# Altium footprint library 2Д212.PcbLib: 1 footprints
Each footprint in its own frame and in the unit in brackets; x right, y up, seen from the top. Pads: shape width x height; smd on the part's side, far side on the other; paste and mask are expansions set on the pad; w line width, h text height; cw(c..) or ccw(c..) is an arc to the next point about the centre after c.
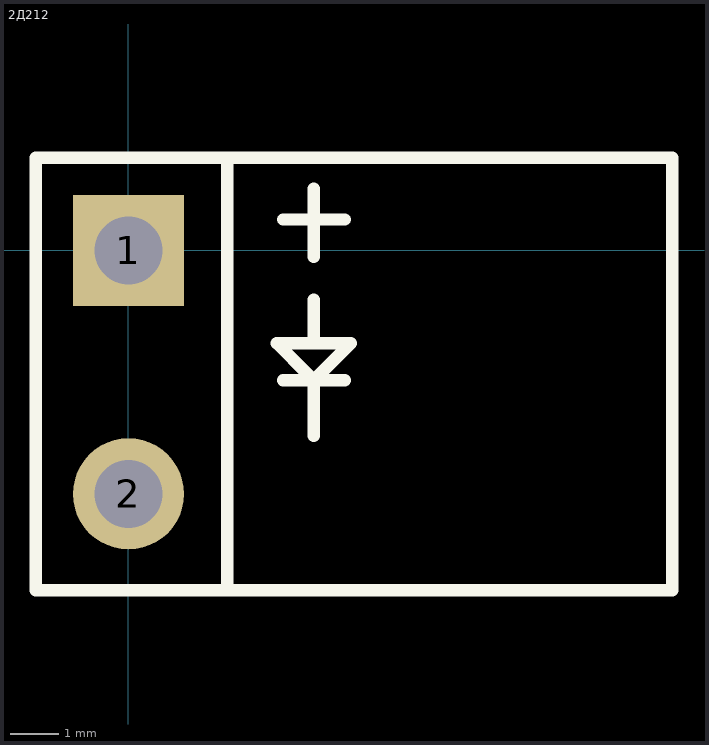
[diagram p0: the footprint, top view; thin cyan lines are the x and y axes]

## 2Д212 [mil]
pads (2):
  rect 90x90 hole 55: 1(0,0)
  round 90 hole 55: 2(0,-197)
Top Overlay:
  lines w10: 0,75 80,75 ; 5,75 -75,75 -75,-275 80,-275 ; 125,-105 175,-105 ; 125,25 175,25 ; 145,-100 120,-75 180,-75 150,-105 150,-150 ; 150,-70 150,-40 ; 150,-5 150,50 ; 80,-275 80,75 ; 80,-275 440,-275 440,75 80,75
3D body: height 157, standoff 0, extent 80,-280 440,70